# Altium schematic symbol library module.SchLib: 1 symbol
Pins are listed as number, name and electrical type; pins without a type are passive.

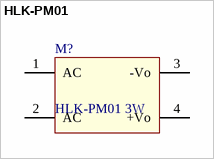
[diagram p0: symbol HLK-PM01]

## HLK-PM01
designator M?, comment HLK-PM01 3W
Header, 1-Pin
footprint HLK-PM01
pins: 1 AC, 2 AC, 3 -Vo, 4 +Vo